# EAGLE library part HCPL_0700_500E (library WiFiPicoDMX_RevA_used)
Broadcom HCPL-0700-500E SOIC-8 optocoupler using project-library land pattern
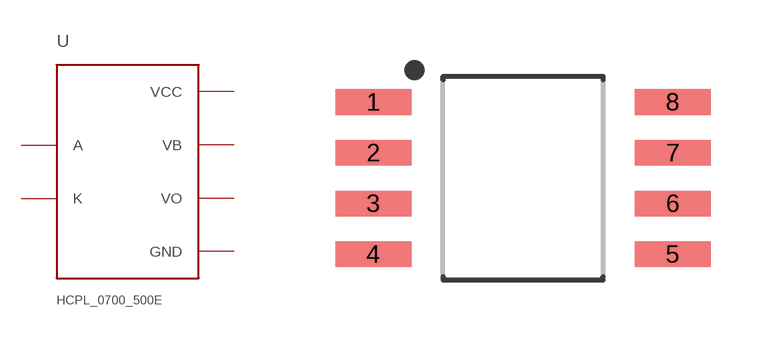
[diagram p4: symbol with the pads of HCPL0700_SO8; footprint HCPL0700_SO8]

Designator prefix U

## HCPL_0700_500E  [HCPL0700_SO8]
2  A  in
3  K  in
5  GND  pwr
6  VO  out
7  VB  in
8  VCC  pwr

## Footprint HCPL0700_SO8 (pad centres in mm)
Broadcom HCPL-0700 SO-8 manufacturer land pattern: 1.27 mm pitch, 7.49 mm row-centre spacing, 1.90 X 0.64 mm pads.
smd 1.9 x 0.64: 1 -3.745,1.905; 2 -3.745,0.635; 3 -3.745,-0.635; 4 -3.745,-1.905; 5 3.745,-1.905; 6 3.745,-0.635; 7 3.745,0.635; 8 3.745,1.905